# Altium footprint library МЭМС датчики.PcbLib: 3 footprints
Each footprint in its own frame and in the unit in brackets; x right, y up, seen from the top. Pads: shape width x height; smd on the part's side, far side on the other; paste and mask are expansions set on the pad; w line width, h text height; cw(c..) or ccw(c..) is an arc to the next point about the centre after c.
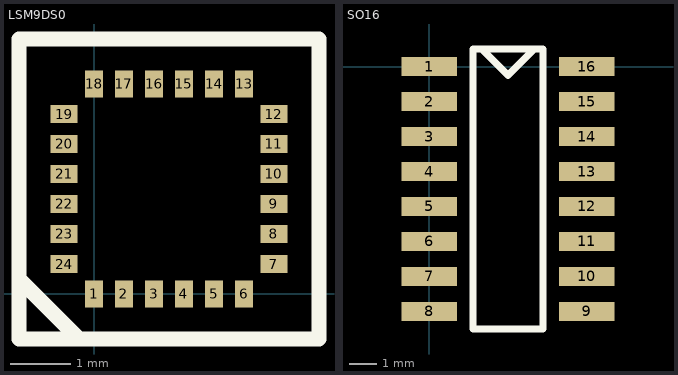
[diagram p0: the footprints below, top view; thin cyan lines are the x and y axes]

## LSM9DS0 [mm]
pads (24):
  rect 0.3x0.45 smd: 1(0,0) 2(0.5,0) 3(1,0) 4(1.5,0) 5(2,0) 6(2.5,0) 13(2.5,3.5) 14(2,3.5) 15(1.5,3.5) 16(1,3.5) 17(0.5,3.5) 18(0,3.5)
  rect 0.45x0.3 smd: 7(3,0.5) 8(3,1) 9(3,1.5) 10(3,2) 11(3,2.5) 12(3,3) 19(-0.5,3) 20(-0.5,2.5) 21(-0.5,2) 22(-0.5,1.5) 23(-0.5,1) 24(-0.5,0.5)
Top Overlay:
  lines w0.25: -1.25,0.25 -0.25,-0.75 ; -1.25,-0.75 3.75,-0.75 3.75,4.25 -1.25,4.25 -1.25,-0.75

## PCBComponent_1 [mm]

## SO16 [mm]
pads (16):
  rect 2x0.7 smd: 1(0,0) 2(0,-1.27) 3(0,-2.54) 4(0,-3.81) 5(0,-5.08) 6(0,-6.35) 7(0,-7.62) 8(0,-8.89) 9(5.715,-8.89) 10(5.715,-7.62) 11(5.715,-6.35) 12(5.715,-5.08) 13(5.715,-3.81) 14(5.715,-2.54) 15(5.715,-1.27) 16(5.715,0)
Top Overlay:
  lines w0.254: 1.905,0.635 2.857,-0.318 3.81,0.635 ; 1.587,-9.525 4.127,-9.525 4.127,0.635 1.587,0.635 1.587,-9.525